# Altium schematic symbol library 7 segment led.SchLib: 1 symbol
Pins are listed as number, name and electrical type; pins without a type are passive.

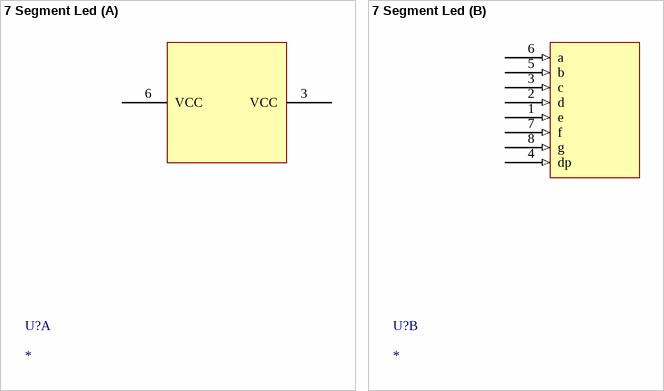
[diagram p0: symbol 7 Segment Led]

## 7 Segment Led
designator U?
Manufacturer: Würth Elektronik; Number of Characters: 1; Digit/Alpha Size: 0.56"(14.20mm); Display Type: 7-Segment; Common Pin: Common Cathode; Voltage - Forward (Vf) (Typ): 3V; Current - Test: 20mA; Millicandela Rating: 32mcd; Wavelength - Peak: 465nm; Power Dissipation (Max): 76mW; Series: WL-T7DS; Size / Dimension: 0.748" H x 0.496" W x 0.325" D (19.00mm x 12.60mm x 8.25mm); Color: Blue; ComponentLink1Description: Datasheet; ComponentLink1URL: https://www.digikey.com/en/products/detail/w%C3%BCrth-elektronik/157142B12803/17734033
footprint PCBComponent_1
part A pins: 3 VCC, 6 VCC
part B pins: 1 e (in), 2 d (in), 3 c (in), 4 dp (in), 5 b (in), 6 a (in), 7 f (in), 8 g (in)